# Altium schematic symbol library Smirnov.SchLib: 72 symbols
Pins are listed as number, name and electrical type; pins without a type are passive.

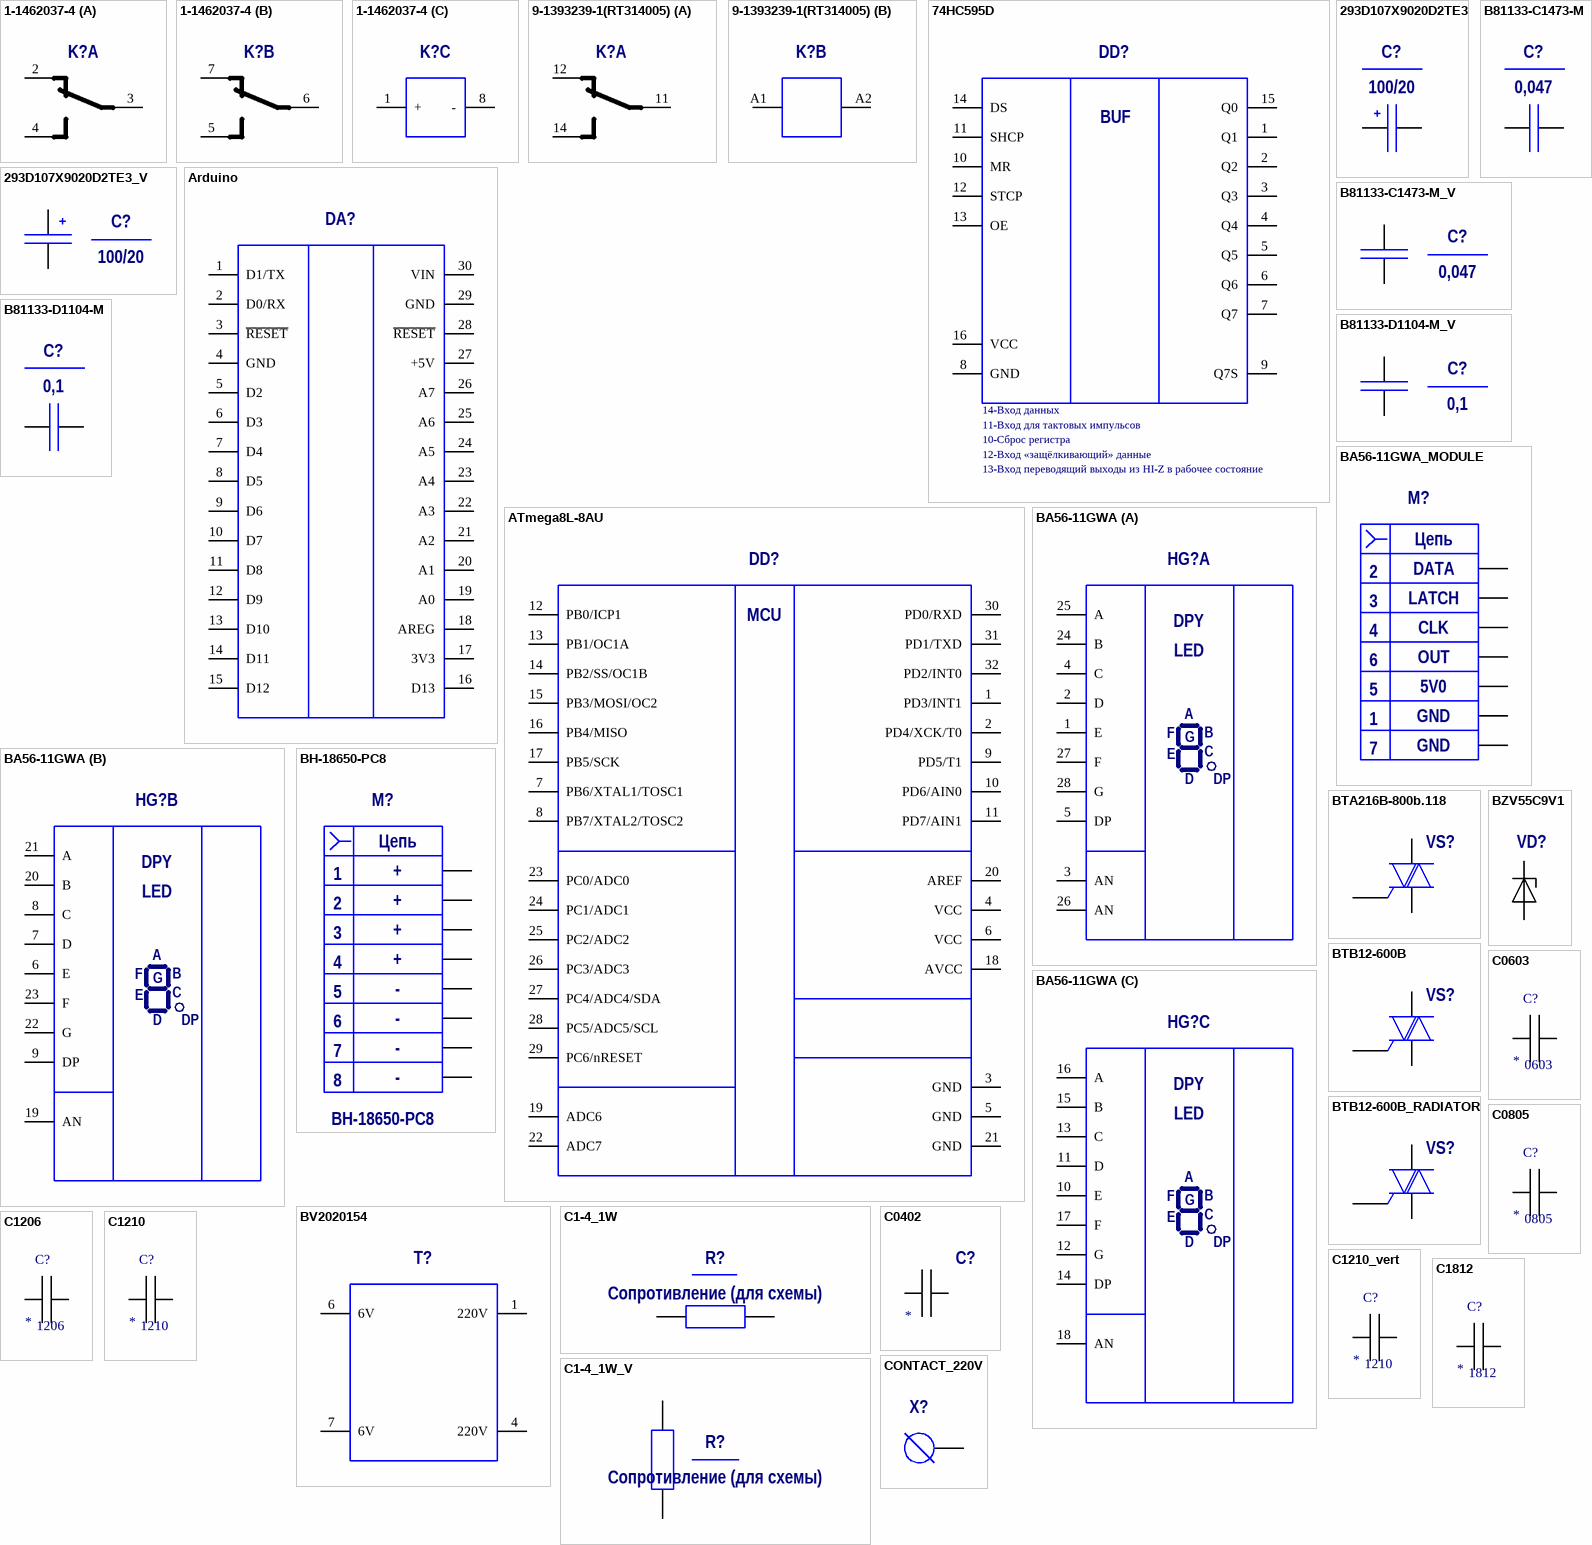
[diagram p0: symbols 1-1462037-4 to CONTACT_220V]

## 1-1462037-4
designator K?
footprint 1-1462037-4 (SOT-23-3, 2.9x1.3mm)
part A pins: 2, 3, 4
part B pins: 5, 6, 7
part C pins: 1 +, 8 -

## 9-1393239-1(RT314005)
designator K?
footprint 9-1393239-1(RT314005)
part A pins: 11, 12, 14
part B pins: A1, A2

## 74HC595D
designator DD?
URL: http://avrproject.ru/publ/kak_podkljuchit/bascom_avr_74hc595/2-1-0-44
footprint 74HC595D_SO16
pins: 1 Q1, 2 Q2, 3 Q3, 4 Q4, 5 Q5, 6 Q6, 7 Q7, 8 GND, 9 Q7S, 10 MR, 11 SHCP, 12 STCP, 13 OE, 14 DS, 15 Q0, 16 VCC
text: BUF; 14-Вход данных; 11-Вход для тактовых импульсов; 10-Сброс регистра; 12-Вход «защёлкивающий» данные; 13-Вход переводящий выходы из HI-Z в рабочее состояние

## 293D107X9020D2TE3
designator C?  Ёмкость (для схемы): 100/20
footprint TECAP_D
pins: 1, 2

## 293D107X9020D2TE3_V
designator C?  Ёмкость (для схемы): 100/20
footprint TECAP_D
pins: 1, 2

## Arduino
designator DA?  (value not drawn)
Микросхема стабилизатора напряжения; Manufacturer: Arduino; Package: *; PartNumber: Arduino
footprint ATMEGA8A-PD (microcontroller)
pins: 1 D1/TX, 2 D0/RX, 3 ~{RESET}, 4 GND, 5 D2, 6 D3, 7 D4, 8 D5, 9 D6, 10 D7, 11 D8, 12 D9, 13 D10, 14 D11, 15 D12, 16 D13, 17 3V3, 18 AREG, 19 A0, 20 A1, 21 A2, 22 A3, 23 A4, 24 A5, 25 A6, 26 A7, 27 +5V, 28 ~{RESET}, 29 GND, 30 VIN

## ATmega8L-8AU
designator DD?  (value not drawn)
Manufacturer: Atmel; Package: *; PartNumber: ATmega8L-8AU
footprint ATmega8L-8AU
pins: 1 PD3/INT1, 2 PD4/XCK/T0, 3 GND, 4 VCC, 5 GND, 6 VCC, 7 PB6/XTAL1/TOSC1, 8 PB7/XTAL2/TOSC2, 9 PD5/T1, 10 PD6/AIN0, 11 PD7/AIN1, 12 PB0/ICP1, 13 PB1/OC1A, 14 PB2/SS/OC1B, 15 PB3/MOSI/OC2, 16 PB4/MISO, 17 PB5/SCK, 18 AVCC, 19 ADC6, 20 AREF, 21 GND, 22 ADC7, 23 PC0/ADC0, 24 PC1/ADC1, 25 PC2/ADC2, 26 PC3/ADC3, 27 PC4/ADC4/SDA, 28 PC5/ADC5/SCL, 29 PC6/nRESET, 30 PD0/RXD, 31 PD1/TXD, 32 PD2/INT0
text: MCU

## B81133-C1473-M
designator C?  Ёмкость (для схемы): 0,047
footprint B81133-C1473-M
pins: 1, 2

## B81133-C1473-M_V
designator C?  Ёмкость (для схемы): 0,047
footprint B81133-C1473-M
pins: 1, 2

## B81133-D1104-M
designator C?  Ёмкость (для схемы): 0,1
footprint B81133-D1104-M
pins: 1, 2

## B81133-D1104-M_V
designator C?  Ёмкость (для схемы): 0,1
footprint B81133-D1104-M
pins: 1, 2

## BA56-11GWA
designator HG?
footprint BA56-11GWA
part A pins: 1 E, 2 D, 3 AN, 4 C, 5 DP, 24 B, 25 A, 26 AN, 27 F, 28 G
part B pins: 6 E, 7 D, 8 C, 9 DP, 19 AN, 20 B, 21 A, 22 G, 23 F
part C pins: 10 E, 11 D, 12 G, 13 C, 14 DP, 15 B, 16 A, 17 F, 18 AN
part A text: DPY; LED
part B text: DPY; LED
part C text: DPY; LED

## BA56-11GWA_MODULE
designator M?  (value not drawn)
footprint BA56-11GWA_MODULE
pins: 1, 2, 3, 4, 5, 6, 7
text: Цепь; DATA; LATCH; CLK; OUT; 5V0; GND

## BH-18650-PC8
designator M?
Part Number: BH-18650-PC8
footprint BH-18650-PC8
pins: 1, 2, 3, 4, 5, 6, 7, 8
text: Цепь; +; -

## BTA216B-800b.118
designator VS?
Manufacturer: WeEn; Part Number: BTA216B-800b.118; Package: *
footprint BTA216B_D2PAK
pins: 1, 2, 3

## BTB12-600B
designator VS?
Manufacturer: ST; Part Number: BTB12-600B; Package: *
footprint BTB12-600B
pins: 1, 2, 3

## BTB12-600B_RADIATOR
designator VS?
Manufacturer: ST; Part Number: BTB12-600B; Package: *
footprint BTB12-600B_RADIATOR
pins: 1, 2, 3

## BV2020154
designator T?  (value not drawn)
Трансформатор 220В-6В; Manufacturer: HAHN; Package: *; PartNumber: BV2020154
footprint BV2020154
pins: 1 220V, 4 220V, 6 6V, 7 6V

## BZV55C9V1
designator VD?  (value not drawn)
ValueBOM: *; Value: *
footprint BZV55C9V1 (Footprint not found)
pins: 1 C, 2 A

## C1-4_1W
designator R?
Сопротивление (для схемы): Сопротивление (для схемы)
footprint C1-4_1W
pins: 1, 2

## C1-4_1W_V
designator R?
Сопротивление (для схемы): Сопротивление (для схемы)
footprint C1-4_1W
pins: 1, 2

## C0402
designator C?
Конденсатор 0402; type: 0402; ValueBOM: *; Value: *
footprint RC0402
pins: 1, 2

## C0603
designator C?  type: 0603  (hidden comment: *)
Конденсатор 0603; ValueBOM: *; Value: *
footprint RC0603
pins: 1, 2

## C0805
designator C?  type: 0805  (hidden comment: *)
Конденсатор 0805; ValueBOM: *; Value: *
footprint RC0805
pins: 1, 2

## C1206
designator C?  type: 1206  (hidden comment: *)
Конденсатор 1206; ValueBOM: *; Value: *
footprint RC1206
pins: 1, 2

## C1210
designator C?  type: 1210  (hidden comment: *)
Конденсатор 1210; ValueBOM: *; Value: *
footprint RC1210
pins: 1, 2

## C1210_vert
designator C?  type: 1210  (hidden comment: *)
Конденсатор 1210 верт; ValueBOM: *; Value: *
footprint C1210_vert (Footprint not found)
pins: 1, 2

## C1812
designator C?  type: 1812  (hidden comment: *)
Конденсатор 1812; ValueBOM: *; Value: *
footprint RC1812
pins: 1, 2

## CONTACT_220V
designator X?
footprint CONTACT_220V
pins: 1

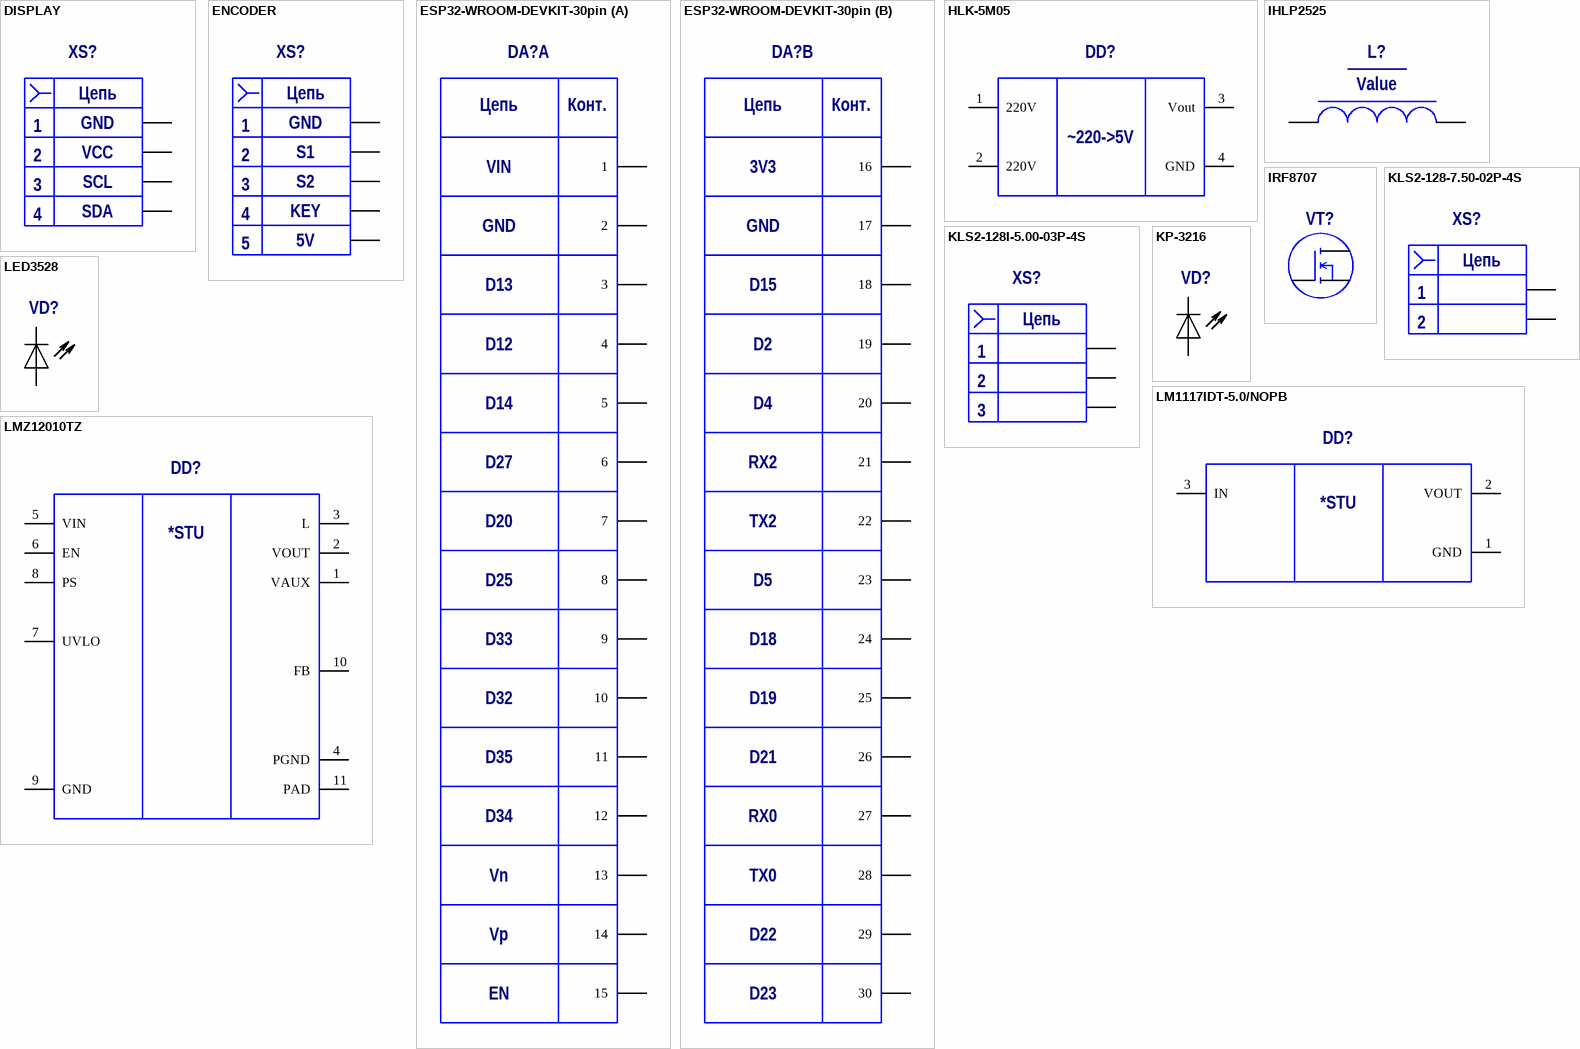
[diagram p1: symbols DISPLAY to LMZ12010TZ]

## DISPLAY
designator XS?  (value not drawn)
footprint DISPLAY (Footprint not found)
footprint DISPLAY_V2
pins: 1, 2, 3, 4
text: Цепь; GND; VCC; SCL; SDA

## ENCODER
designator XS?  (value not drawn)
footprint ENCODER (Footprint not found)
footprint ENCODER_V2
pins: 1, 2, 3, 4, 5
text: Цепь; GND; S1; S2; KEY; 5V

## ESP32-WROOM-DEVKIT-30pin
designator DA?, comment ESP32-WROOM-DEVKIT-30pinArduino  (value not drawn)
footprint ESP32-WROOM-DEVKIT-30pin (7 leads, straight connector, socket header, 17.78x2.54 mm)
part A pins: 1, 2, 3, 4, 5, 6, 7, 8, 9, 10, 11, 12, 13, 14, 15
part B pins: 16, 17, 18, 19, 20, 21, 22, 23, 24, 25, 26, 27, 28, 29, 30
part A text: Цепь; Конт.; VIN; GND; D13; D12; D14; D27; D20; D25; D33; D32; D35; D34; Vn; Vp; EN
part B text: Цепь; Конт.; 3V3; GND; D15; D2; D4; RX2; TX2; D5; D18; D19; D21; RX0; TX0; D22; D23

## HLK-5M05
designator DD?  (value not drawn)
Manufacturer: Texas Instruments; Part Number: LM1117IDT-5.0/NOPB; Package: *
footprint HLK-5M05
pins: 1 220V, 2 220V, 3 Vout, 4 GND
text: ~220->5V

## IHLP2525
designator L?  (value not drawn)
Part Number: *; Link: *; Value: Value
footprint IHLP2525
pins: 1, 2

## IRF8707
designator VT?
footprint IRF8707_SO8 (8 pin, small outline integrated circuit (SOIC), 4.90x3.90 mm)
pins: 1 И, 2 И, 3 И, 4 З, 5 С, 6 С, 7 С, 8 С

## KLS2-128-7.50-02P-4S
designator XS?  (value not drawn)
footprint KLS2-128-7.50-02P-4S (Footprint not found)
pins: 1, 2
text: Цепь

## KLS2-128I-5.00-03P-4S
designator XS?  (value not drawn)
footprint KLS2-128I-5.00-03P-4S (Footprint not found)
pins: 1, 2, 3
text: Цепь

## KP-3216
designator VD?  (value not drawn)
LED 1206; ValueBOM: *; Value: *
footprint KP-3216
pins: 1 C, 2 A

## LED3528
designator VD?, comment LED 1210  (value not drawn)
ValueBOM: *; Value: *
footprint LED3528
pins: 1 C, 2 A

## LM1117IDT-5.0/NOPB
designator DD?  (value not drawn)
Manufacturer: Texas Instruments; Package: *; Part Number: LM1117IDT-5.0/NOPB
footprint LM1117IDT-5.0/NOPB
pins: 1 GND, 2 VOUT, 3 IN
text: *STU

## LMZ12010TZ
designator DD?  (value not drawn)
10A SIMPLE SWITCHER® Power Module with 20V Maximum Input Voltage; Manufacturer: Texas Instruments; Package: *; Part Number: LMZ12010TZ
pins: 1 VAUX, 2 VOUT, 3 L, 4 PGND, 5 VIN, 6 EN, 7 UVLO, 8 PS, 9 GND, 10 FB, 11 PAD
text: *STU

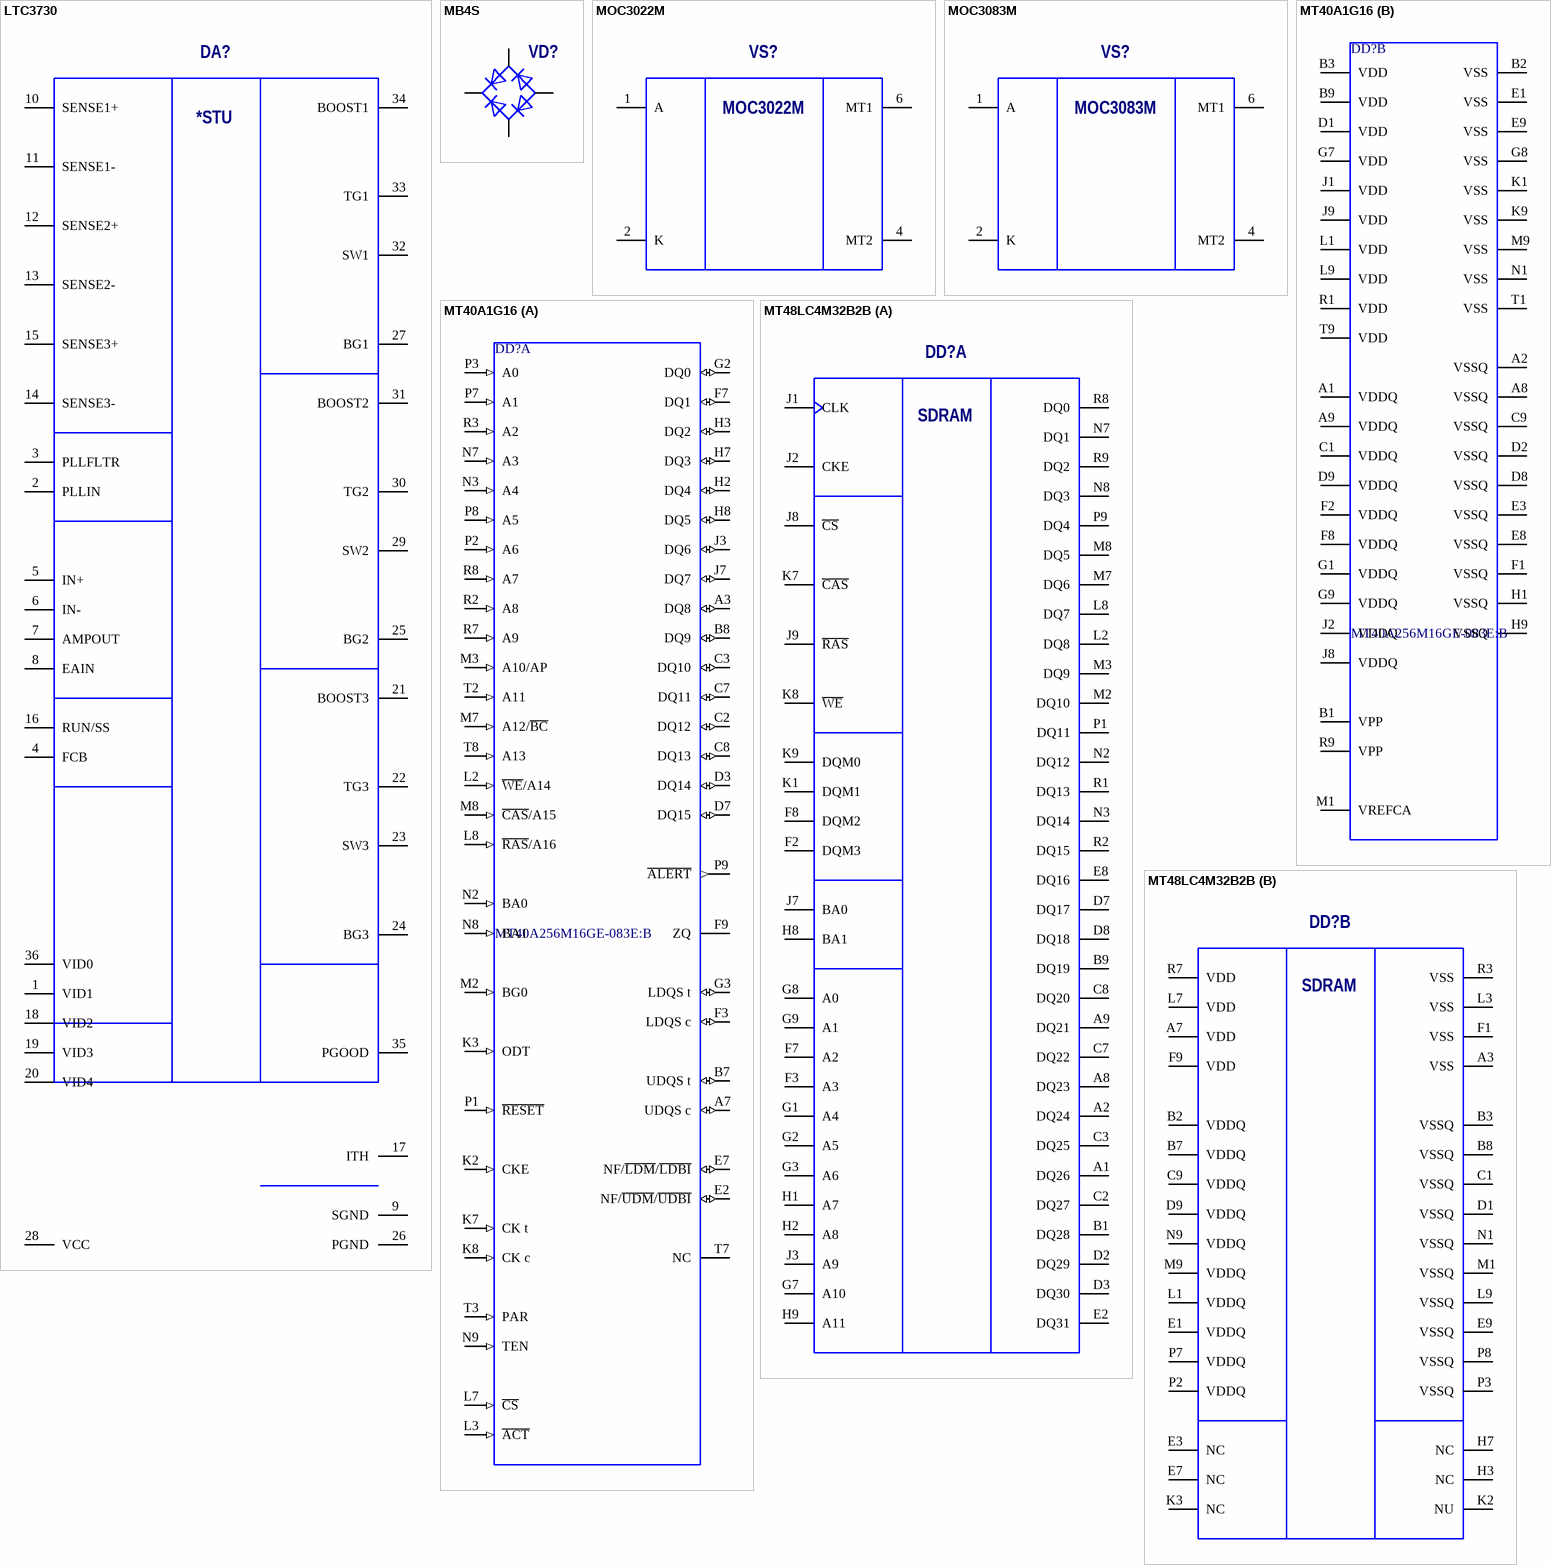
[diagram p2: symbols LTC3730 to MT48LC4M32B2B]

## LTC3730
designator DA?  (value not drawn)
Manufacturer: Analog Devices; Package: 36-pin SSOP; PartNumber: *
pins: 1 VID1, 2 PLLIN, 3 PLLFLTR, 4 FCB, 5 IN+, 6 IN-, 7 AMPOUT, 8 EAIN, 9 SGND, 10 SENSE1+, 11 SENSE1-, 12 SENSE2+, 13 SENSE2-, 14 SENSE3-, 15 SENSE3+, 16 RUN/SS, 17 ITH, 18 VID2, 19 VID3, 20 VID4, 21 BOOST3, 22 TG3, 23 SW3, 24 BG3, 25 BG2, 26 PGND, 27 BG1, 28 VCC, 29 SW2, 30 TG2, 31 BOOST2, 32 SW1, 33 TG1, 34 BOOST1, 35 PGOOD, 36 VID0
text: *STU

## MB4S
designator VD?
footprint MB4S
pins: 1, 2, 3, 4

## MOC3022M
designator VS?
footprint MOC3022M
pins: 1 A, 2 K, 4 MT2, 6 MT1

## MOC3083M
designator VS?
footprint MOC3083M
pins: 1 A, 2 K, 4 MT2, 6 MT1
1 alternate drawing of the same symbol

## MT40A1G16
designator DD?, comment MT40A256M16GE-083E:B
IC DRAM DDR4 4G 256MX16 FBGA; Manufacturer: Micron; Obsolete Part: true; Manufacturer: Micron Technology; Access Time: 0.833ns; Max Supply Voltage: 2.75V; Memory Size: 4Gbits; Interface: Parallel; Memory Type: SDRAM,OTHER; Standoff Height: 0.29mm; Min Supply Voltage: 1.14V; Digikey Description: IC DRAM DDR4 4G 256MX16 FBGA; ComponentLink2URL: https://www.micron.com/~/media/documents/products/data-sheet/dram/ddr4/4gb_ddr4_sdram.pdf; Mouser Description: DRAM Chip DDR4 SDRAM 4G-Bit 256M x 16 1.2V 96-Pin TF-BGA; Lead Free: Yes; Height: 1.2mm; Octopart: https://octopart.com/mt40a256m16ge-083e%3Ab-micron-66904869; RoHS: TRUE; Category: IC; Ipc Land Pattern Name: BGA144N80P9X16_1400X900X110; Device Class L1: Integrated Circuits (ICs); Temperature Range Low: 0°C; ComponentLink2Description: Datasheet; Temperature: 0°C to +95°C; Device Class L2: Memory; Package: GE; Manufacturer Part Number: MT40A256M16GE-083E:B; Device Class L3: RAM; Automotive: No; Temperature Range High: +95°C
footprint FPGA-96
part A pins: A3 DQ8 (io), A7 UDQS c (io), B7 UDQS t (io), B8 DQ9 (io), C2 DQ12 (io), C3 DQ10 (io), C7 DQ11 (io), C8 DQ13 (io), D3 DQ14 (io), D7 DQ15 (io), E2 NF/~{UDM}/~{UDBI} (io), E7 NF/~{LDM}/~{LDBI} (io), F3 LDQS c (io), F7 DQ1 (io), F9 ZQ, G2 DQ0 (io), G3 LDQS t (io), H2 DQ4 (io), H3 DQ2 (io), H7 DQ3 (io), H8 DQ5 (io), J3 DQ6 (io), J7 DQ7 (io), K2 CKE (in), K3 ODT (in), K7 CK t (in), K8 CK c (in), L2 ~{WE}/A14 (in), L3 ~{ACT} (in), L7 ~{CS} (in), L8 ~{RAS}/A16 (in), M2 BG0 (in), M3 A10/AP (in), M7 A12/~{BC} (in), M8 ~{CAS}/A15 (in), N2 BA0 (in), N3 A4 (in), N7 A3 (in), N8 BA1 (in), N9 TEN (in), P1 ~{RESET} (in), P2 A6 (in), P3 A0 (in), P7 A1 (in), P8 A5 (in), P9 ~{ALERT} (out), R2 A8 (in), R3 A2 (in), R7 A9 (in), R8 A7 (in), T2 A11 (in), T3 PAR (in), T7 NC, T8 A13 (in)
part B pins: A1 VDDQ (power), A2 VSSQ (power), A8 VSSQ (power), A9 VDDQ (power), B1 VPP (power), B2 VSS (power), B3 VDD (power), B9 VDD (power), C1 VDDQ (power), C9 VSSQ (power), D1 VDD (power), D2 VSSQ (power), D8 VSSQ (power), D9 VDDQ (power), E1 VSS (power), E3 VSSQ (power), E8 VSSQ (power), E9 VSS (power), F1 VSSQ (power), F2 VDDQ (power), F8 VDDQ (power), G1 VDDQ (power), G7 VDD (power), G8 VSS (power), G9 VDDQ (power), H1 VSSQ (power), H9 VSSQ (power), J1 VDD (power), J2 VDDQ (power), J8 VDDQ (power), J9 VDD (power), K1 VSS (power), K9 VSS (power), L1 VDD (power), L9 VDD (power), M1 VREFCA (power), M9 VSS (power), N1 VSS (power), R1 VDD (power), R9 VPP (power), T1 VSS (power), T9 VDD (power)

## MT48LC4M32B2B
designator DD?
footprint BGA90C80P9X15_800X1300X70 (BGA, 90-Leads, Body 8,00x13,00mmx0,70mm, Pitch 0,80mm)
part A pins: A1 DQ26, A2 DQ24, A8 DQ23, A9 DQ21, B1 DQ28, B9 DQ19, C2 DQ27, C3 DQ25, C7 DQ22, C8 DQ20, D2 DQ29, D3 DQ30, D7 DQ17, D8 DQ18, E2 DQ31, E8 DQ16, F2 DQM3, F3 A3, F7 A2, F8 DQM2, G1 A4, G2 A5, G3 A6, G7 A10, G8 A0, G9 A1, H1 A7, H2 A8, H8 BA1, H9 A11, J1 CLK, J2 CKE, J3 A9, J7 BA0, J8 ~{CS}, J9 ~{RAS}, K1 DQM1, K7 ~{CAS}, K8 ~{WE}, K9 DQM0, L2 DQ8, L8 DQ7, M2 DQ10, M3 DQ9, M7 DQ6, M8 DQ5, N2 DQ12, N3 DQ14, N7 DQ1, N8 DQ3, P1 DQ11, P9 DQ4, R1 DQ13, R2 DQ15, R8 DQ0, R9 DQ2
part B pins: A3 VSS, A7 VDD, B2 VDDQ, B3 VSSQ, B7 VDDQ, B8 VSSQ, C1 VSSQ, C9 VDDQ, D1 VSSQ, D9 VDDQ, E1 VDDQ, E3 NC, E7 NC, E9 VSSQ, F1 VSS, F9 VDD, H3 NC, H7 NC, K2 NU, K3 NC, L1 VDDQ, L3 VSS, L7 VDD, L9 VSSQ, M1 VSSQ, M9 VDDQ, N1 VSSQ, N9 VDDQ, P2 VDDQ, P3 VSSQ, P7 VDDQ, P8 VSSQ, R3 VSS, R7 VDD
part A text: SDRAM
part B text: SDRAM

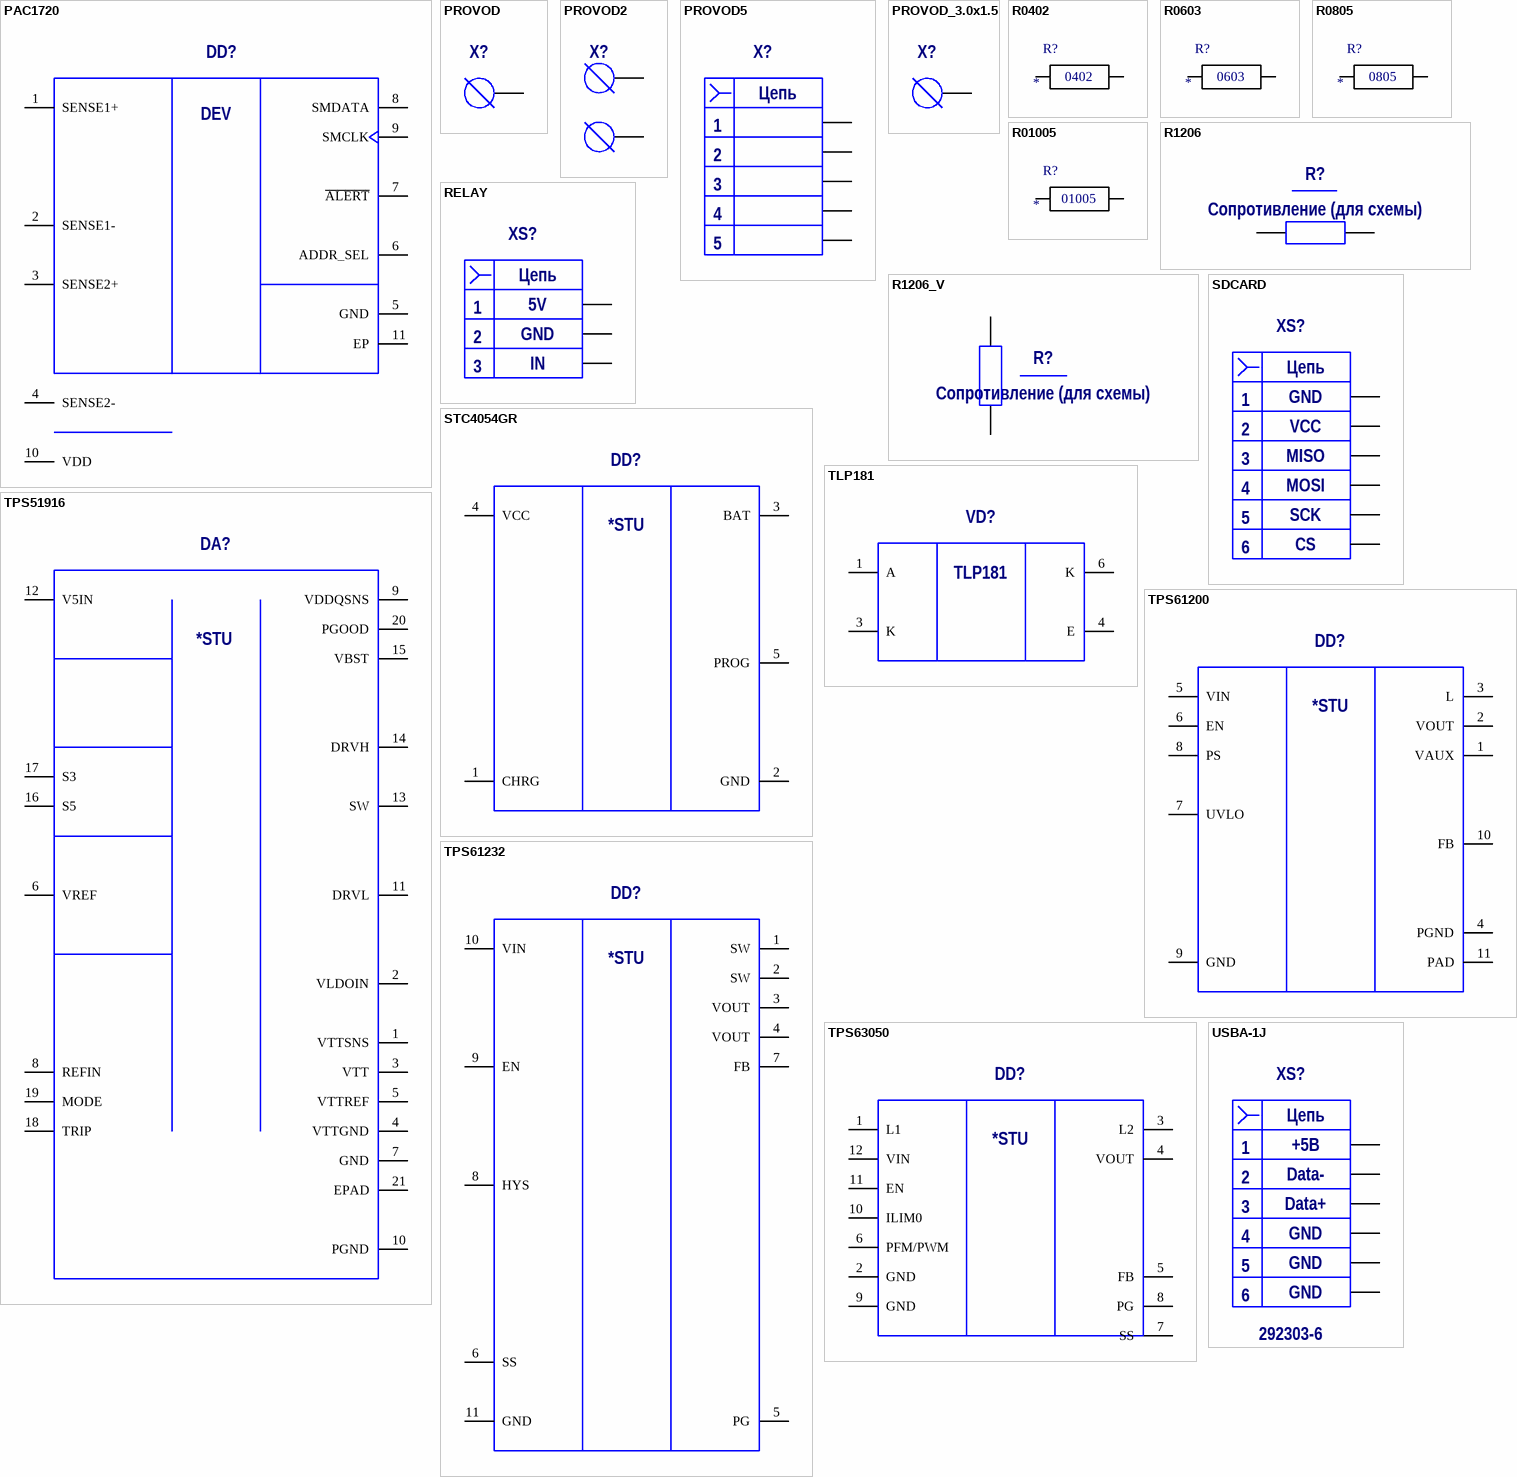
[diagram p3: symbols PAC1720 to USBA-1J]

## PAC1720
designator DD?
pins: 1 SENSE1+, 2 SENSE1-, 3 SENSE2+, 4 SENSE2-, 5 GND, 6 ADDR_SEL, 7 ~{ALERT}, 8 SMDATA, 9 SMCLK, 10 VDD, 11 EP
1 alternate drawing of the same symbol
text: DEV

## PROVOD
designator X?  (value not drawn)
footprint PROVOD
pins: 1

## PROVOD2
designator X?  (value not drawn)
footprint PROVOD2
pins: 1, 2

## PROVOD5
designator X?
PROVOD5
footprint PROVOD5 (PROVOD2)
pins: 1, 2, 3, 4, 5
text: Цепь

## PROVOD_3.0x1.5
designator X?  (value not drawn)
PROVOD
footprint PROVOD_1.5x3.0 (PROVOD)
pins: 1

## R0402
designator R?  type: 0402  (hidden comment: *)
Резистор 0402; ValueBOM: *; Value: *
footprint RC0402
pins: 1, 2

## R0603
designator R?  type: 0603  (hidden comment: *)
Резистор 0603; ValueBOM: *; Value: *
footprint RC0603
pins: 1, 2

## R0805
designator R?  type: 0805  (hidden comment: *)
Резистор 0805; ValueBOM: *; Value: *
footprint RC0805
pins: 1, 2

## R01005
designator R?  type: 01005  (hidden comment: *)
Резистор 01005; ValueBOM: *; Value: *
footprint RC01005
pins: 1, 2

## R1206
designator R?
Сопротивление (для схемы): Сопротивление (для схемы)
footprint Chip_Resistor_1206 (Chip Resistor size 1206)
pins: 1, 2

## R1206_V
designator R?
Сопротивление (для схемы): Сопротивление (для схемы)
footprint Chip_Resistor_1206 (Chip Resistor size 1206)
pins: 1, 2

## RELAY
designator XS?  (value not drawn)
footprint RELAY (Footprint not found)
pins: 1, 2, 3
text: Цепь; 5V; GND; IN

## SDCARD
designator XS?  (value not drawn)
footprint SDCARD
pins: 1, 2, 3, 4, 5, 6
text: Цепь; GND; VCC; MISO; MOSI; SCK; CS

## STC4054GR
designator DD?  (value not drawn)
800mA Standalone linear Li-Ion Battery charger with thermal regulation; Manufacturer: ST; Package: *; Part Number: STC4054GR
footprint STC4054_(TSOT23-5L) (TSOT23-5L, 3.0x1.6mm)
pins: 1 CHRG, 2 GND, 3 BAT, 4 VCC, 5 PROG
text: *STU

## TLP181
designator VD?
footprint TLP181
pins: 1 A, 3 K, 4 E, 6 K

## TPS51916
designator DA?  (value not drawn)
Manufacturer: Texas Instruments; Package: 20-pin WQFN; PartNumber: *
pins: 1 VTTSNS, 2 VLDOIN, 3 VTT, 4 VTTGND, 5 VTTREF, 6 VREF, 7 GND, 8 REFIN, 9 VDDQSNS, 10 PGND, 11 DRVL, 12 V5IN, 13 SW, 14 DRVH, 15 VBST, 16 S5, 17 S3, 18 TRIP, 19 MODE, 20 PGOOD, 21 EPAD
text: *STU

## TPS61200
designator DD?  (value not drawn)
LOW INPUT VOLTAGE SYNCHRONOUS BOOST CONVERTER WITH 1.3-A SWITCHES; Manufacturer: Texas Instruments; Part Number: TPS61200DRCR; Package: *
footprint TPS61200_(10-pin SON) (10-pin SON, 3.0x3.0mm)
pins: 1 VAUX, 2 VOUT, 3 L, 4 PGND, 5 VIN, 6 EN, 7 UVLO, 8 PS, 9 GND, 10 FB, 11 PAD
text: *STU

## TPS61232
designator DD?  (value not drawn)
LOW INPUT VOLTAGE SYNCHRONOUS BOOST CONVERTER WITH 1.3-A SWITCHES; Manufacturer: Texas Instruments; Part Number: TPS61232DRC; Package: *
footprint TPS61232_(10-pin SON) (10-pin SON, 3.0x3.0mm)
pins: 1 SW, 2 SW, 3 VOUT, 4 VOUT, 5 PG, 6 SS, 7 FB, 8 HYS, 9 EN, 10 VIN, 11 GND
text: *STU

## TPS63050
designator DD?  (value not drawn)
Single Inductor Buck-Boost With 1-A Switches and Adjustable Soft Start; Manufacturer: Texas Instruments; Part Number: TPS63050RMW; Package: *
footprint TPS6305x_(12-pin VQFN)
pins: 1 L1, 2 GND, 3 L2, 4 VOUT, 5 FB, 6 PFM/PWM, 7 SS, 8 PG, 9 GND, 10 ILIM0, 11 EN, 12 VIN
text: *STU

## USBA-1J
designator XS?  Part Number: 292303-6  (hidden comment: USBA-1J)
Manufacturer: TE
footprint USBA-1J
pins: 1, 2, 3, 4, 5, 6
text: Цепь; +5B; Data-; Data+; GND

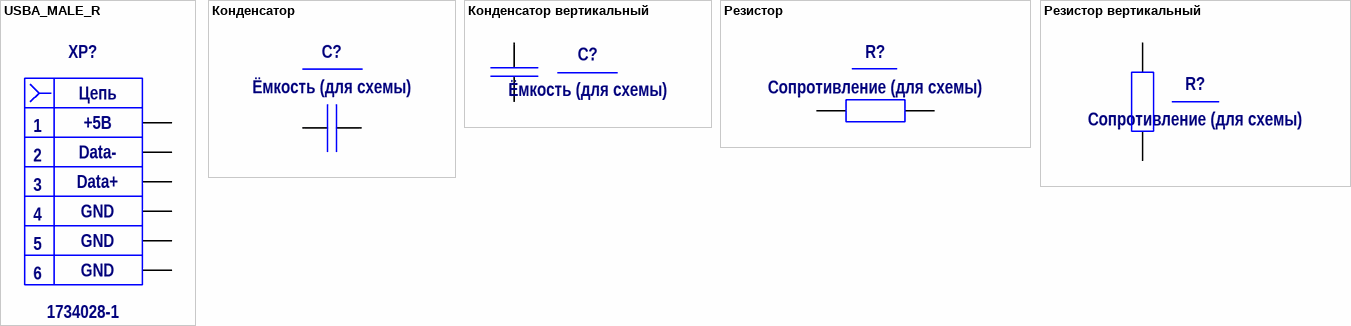
[diagram p4: symbols USBA_MALE_R to Резистор вертикальный]

## USBA_MALE_R
designator XP?  Part Number: 1734028-1  (hidden comment: USBA_MALE_R)
Manufacturer: TE
footprint USBA_MALE_R
pins: 1 VCC, 2 D-, 3 D+, 4 GND, 7 SHELD, 8 SHELD
text: Цепь; +5B; Data-; Data+; 5; 6

## Конденсатор
designator C?
Ёмкость (для схемы): Ёмкость (для схемы)
pins: 1, 2

## Конденсатор вертикальный
designator C?
Ёмкость (для схемы): Ёмкость (для схемы)
pins: 1, 2

## Резистор
designator R?
Сопротивление (для схемы): Сопротивление (для схемы)
pins: 1, 2

## Резистор вертикальный
designator R?
Сопротивление (для схемы): Сопротивление (для схемы)
pins: 1, 2